# Altium schematic symbol library PIC32MX470F512H-I_PT.SchLib: 1 symbol
Pins are listed as number, name and electrical type; pins without a type are passive.

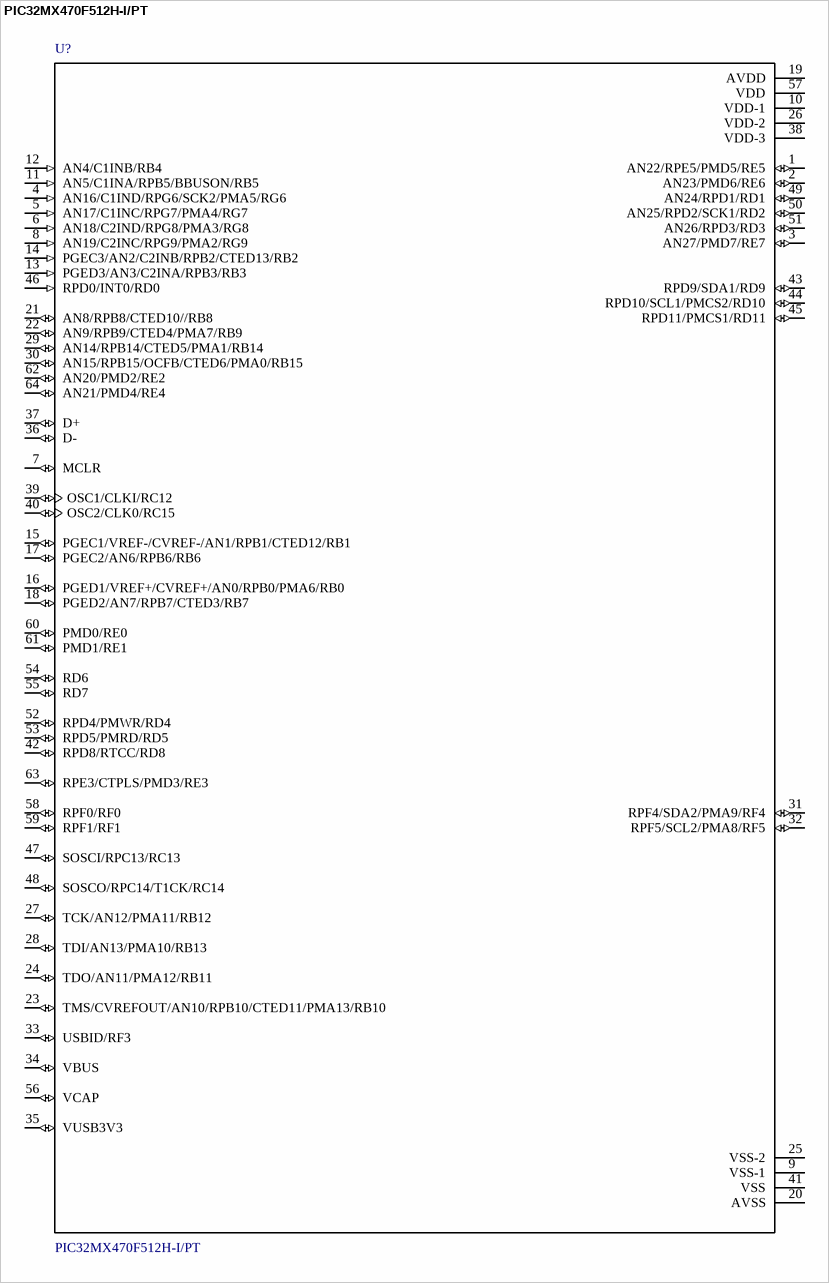
[diagram p0: symbol PIC32MX470F512H-I/PT]

## PIC32MX470F512H-I/PT
designator U?
80MHz, 2 analog comp., 2I2C, 2SPI/I2S, 28 Ch. ADC, RTCC, DMA, PMP, 64 TQFP 10x10x1mm TRAY; MF: Microchip; Package: TQFP-64 Microchip; Price: None; SnapEDA_Link: https://www.snapeda.com/parts/PIC32MX470F512H-I/PT/Microchip/view-part/?ref=snap; Availability: Unavailable; MP: PIC32MX470F512H-I/PT; Value: *
footprint *QFP50P1200X1200X120-64N
pins: 1 AN22/RPE5/PMD5/RE5 (io), 2 AN23/PMD6/RE6 (io), 3 AN27/PMD7/RE7 (io), 4 AN16/C1IND/RPG6/SCK2/PMA5/RG6 (in), 5 AN17/C1INC/RPG7/PMA4/RG7 (in), 6 AN18/C2IND/RPG8/PMA3/RG8 (in), 7 MCLR (io), 8 AN19/C2INC/RPG9/PMA2/RG9 (in), 9 VSS-1 (power), 10 VDD-1 (power), 11 AN5/C1INA/RPB5/BBUSON/RB5 (in), 12 AN4/C1INB/RB4 (in), 13 PGED3/AN3/C2INA/RPB3/RB3 (in), 14 PGEC3/AN2/C2INB/RPB2/CTED13/RB2 (in), 15 PGEC1/VREF-/CVREF-/AN1/RPB1/CTED12/RB1 (io), 16 PGED1/VREF+/CVREF+/AN0/RPB0/PMA6/RB0 (io), 17 PGEC2/AN6/RPB6/RB6 (io), 18 PGED2/AN7/RPB7/CTED3/RB7 (io), 19 AVDD (power), 20 AVSS (power), 21 AN8/RPB8/CTED10//RB8 (io), 22 AN9/RPB9/CTED4/PMA7/RB9 (io), 23 TMS/CVREFOUT/AN10/RPB10/CTED11/PMA13/RB10 (io), 24 TDO/AN11/PMA12/RB11 (io), 25 VSS-2 (power), 26 VDD-2 (power), 27 TCK/AN12/PMA11/RB12 (io), 28 TDI/AN13/PMA10/RB13 (io), 29 AN14/RPB14/CTED5/PMA1/RB14 (io), 30 AN15/RPB15/OCFB/CTED6/PMA0/RB15 (io), 31 RPF4/SDA2/PMA9/RF4 (io), 32 RPF5/SCL2/PMA8/RF5 (io), 33 USBID/RF3 (io), 34 VBUS (io), 35 VUSB3V3 (io), 36 D- (io), 37 D+ (io), 38 VDD-3 (power), 39 OSC1/CLKI/RC12 (io), 40 OSC2/CLK0/RC15 (io), 41 VSS (power), 42 RPD8/RTCC/RD8 (io), 43 RPD9/SDA1/RD9 (io), 44 RPD10/SCL1/PMCS2/RD10 (io), 45 RPD11/PMCS1/RD11 (io), 46 RPD0/INT0/RD0 (in), 47 SOSCI/RPC13/RC13 (io), 48 SOSCO/RPC14/T1CK/RC14 (io), 49 AN24/RPD1/RD1 (io), 50 AN25/RPD2/SCK1/RD2 (io), 51 AN26/RPD3/RD3 (io), 52 RPD4/PMWR/RD4 (io), 53 RPD5/PMRD/RD5 (io), 54 RD6 (io), 55 RD7 (io), 56 VCAP (io), 57 VDD (power), 58 RPF0/RF0 (io), 59 RPF1/RF1 (io), 60 PMD0/RE0 (io), 61 PMD1/RE1 (io), 62 AN20/PMD2/RE2 (io), 63 RPE3/CTPLS/PMD3/RE3 (io), 64 AN21/PMD4/RE4 (io)